# EAGLE library part WI.232EUR (library Traficon)
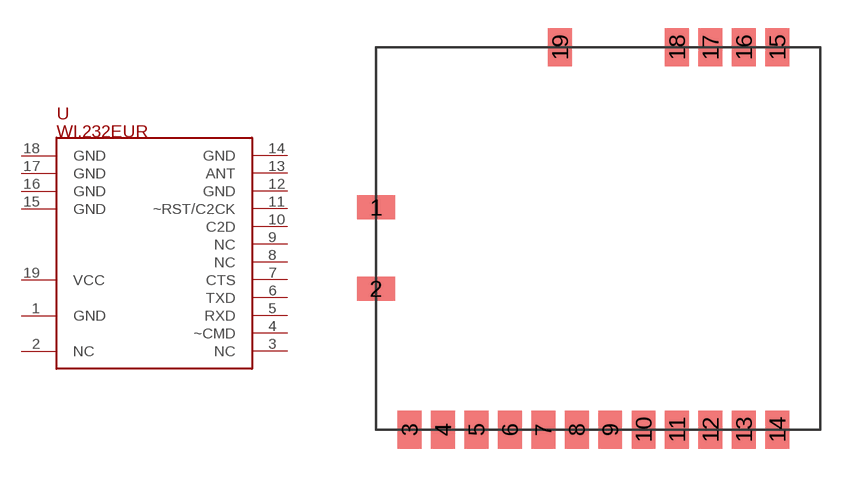
[diagram p47: symbol with the pads of WI.232DTS2; footprint WI.232DTS2]

Designator prefix U

## WI.232EUR  [WI.232DTS2]
1  GND
2  NC
3  NC
4  ~CMD
5  RXD
6  TXD
7  CTS
8  NC
9  NC
10  C2D
11  ~RST/C2CK
12  GND
13  ANT
14  GND
15  GND
16  GND
17  GND
18  GND
19  VCC

## Footprint WI.232DTS2 (pad centres in mm)
smd 2.032 x 1.27: 1 0,11.811; 2 0,7.493
smd 1.27 x 2.032: 3 1.778,0; 4 3.556,0; 5 5.334,0; 6 7.112,0; 7 8.89,0; 8 10.668,0; 9 12.446,0; 10 14.224,0; 11 16.002,0; 12 17.78,0; 13 19.558,0; 14 21.336,0; 15 21.336,20.32; 16 19.558,20.32; 17 17.78,20.32; 18 16.002,20.32; 19 9.779,20.32